# Altium schematic symbol library ADC101C027CIMK_NOPB.SchLib: 1 symbol
Pins are listed as number, name and electrical type; pins without a type are passive.

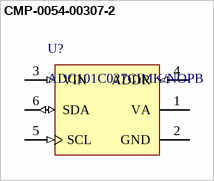
[diagram p0: symbol CMP-0054-00307-2]

## CMP-0054-00307-2
designator U?, comment ADC101C027CIMK/NOPB
I2C-Compatible, 10-Bit Analog-to-Digital Converter (ADC) with Alert Function, 6-pin Tiny SOT23, Pb-Free; Manufacturer: National Semiconductor; PowerWise: N; PackageTopMarking: X32C*XTT; CompType: ADC IC; PackageReference: MK06A; RevisionNote: Component URLs added; ComponentLink2Description: ADC101C027 Web Page; RoHS: Y; ComponentLink3URL: http://www.national.com/packaging/folders/mk06a.html; Code_JEDEC: MO-193-AA; Code_IPC: SOT26A-6; DatasheetVersion: Feb-2008; ComponentLink1URL: http://www.national.com/ds/AD/ADC101C027.pdf; ComponentLink3Description: MK06A Package Page; ComponentLink1Description: ADC101C027 Datasheet; PinCount: 6; PackageDescription: Molded TSOT, 2.97 x 1.65 x 0.87mm Body, 6 Lead, 0.95mm Pitch; ComponentLink2URL: http://www.national.com/pf/AD/ADC101C027.html; PackageVersion: revE, Nov-2008
footprint MK06A_L (SOT23, 6-Leads, Body 3.0x1.7mm, Pitch 0.95mm, Lead Span 2.9mm, IPC High Density)
footprint MK06A_N (SOT23, 6-Leads, Body 3.0x1.7mm, Pitch 0.95mm, Lead Span 2.9mm, IPC Medium Density)
footprint MK06A_M (SOT23, 6-Leads, Body 3.0x1.7mm, Pitch 0.95mm, Lead Span 2.9mm, IPC Low Density)
pins: 1 VA (power), 2 GND (power), 3 VIN (in), 4 ADDR (in), 5 SCL (in), 6 SDA (io)